# Altium schematic symbol library SG3525.SchLib: 1 symbol
Pins are listed as number, name and electrical type; pins without a type are passive.

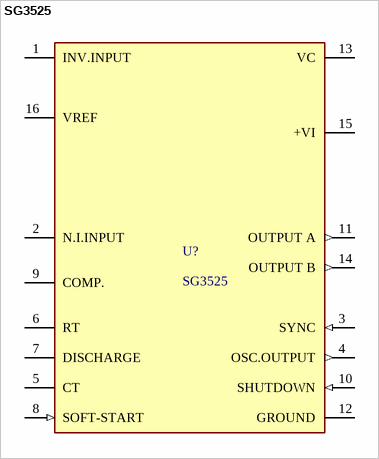
[diagram p0: symbol SG3525]

## SG3525
designator U?
footprint SOIC-16-L
footprint SOIC-16-M
footprint SOIC-16-N
footprint FP-SO16-IPC_A
footprint FP-SO16-IPC_B
footprint FP-SO16-IPC_C
pins: 1 INV.INPUT (hiz), 2 N.I.INPUT (hiz), 3 SYNC (in), 4 OSC.OUTPUT (out), 5 CT, 6 RT, 7 DISCHARGE, 8 SOFT-START (in), 9 COMP., 10 SHUTDOWN (in), 11 OUTPUT A (out), 12 GROUND (power), 13 VC (power), 14 OUTPUT B (out), 15 +VI (power), 16 VREF